# EAGLE library part ARD_DIGITAL_1 (library EnigmaMon)
Arduino Digital Inputs Pin-header for Arduino digital I/O pins
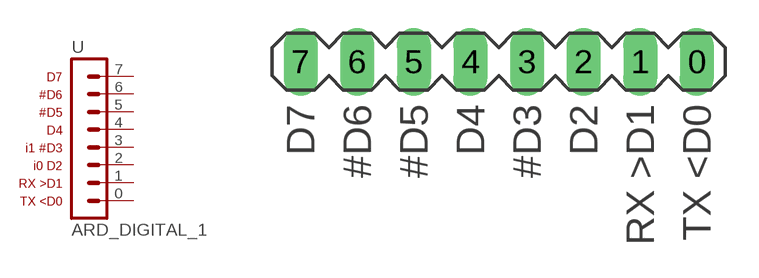
[diagram p1: symbol with the pads of ARD_DIGITAL_1; footprint ARD_DIGITAL_1]

Designator prefix -

## ARD_DIGITAL_1  [ARD_DIGITAL_1]
0  0  pas
1  1  pas
2  2  pas
3  3  pas
4  4  pas
5  5  pas
6  6  pas
7  7  pas

## Footprint ARD_DIGITAL_1 (pad centres in mm)
Arduino Digital Pins
drill 1.016 long: 0 8.89,0; 1 6.35,0; 2 3.81,0; 3 1.27,0; 4 -1.27,0; 5 -3.81,0; 6 -6.35,0; 7 -8.89,0